# Altium footprint library WR-TBL_Spring Clamp_7.00mm.PcbLib: 32 footprints (part 2 of 2)
Each footprint in its own frame and in the unit in brackets; x right, y up, seen from the top. Pads: shape width x height; smd on the part's side, far side on the other; paste and mask are expansions set on the pad; w line width, h text height; cw(c..) or ccw(c..) is an arc to the next point about the centre after c.
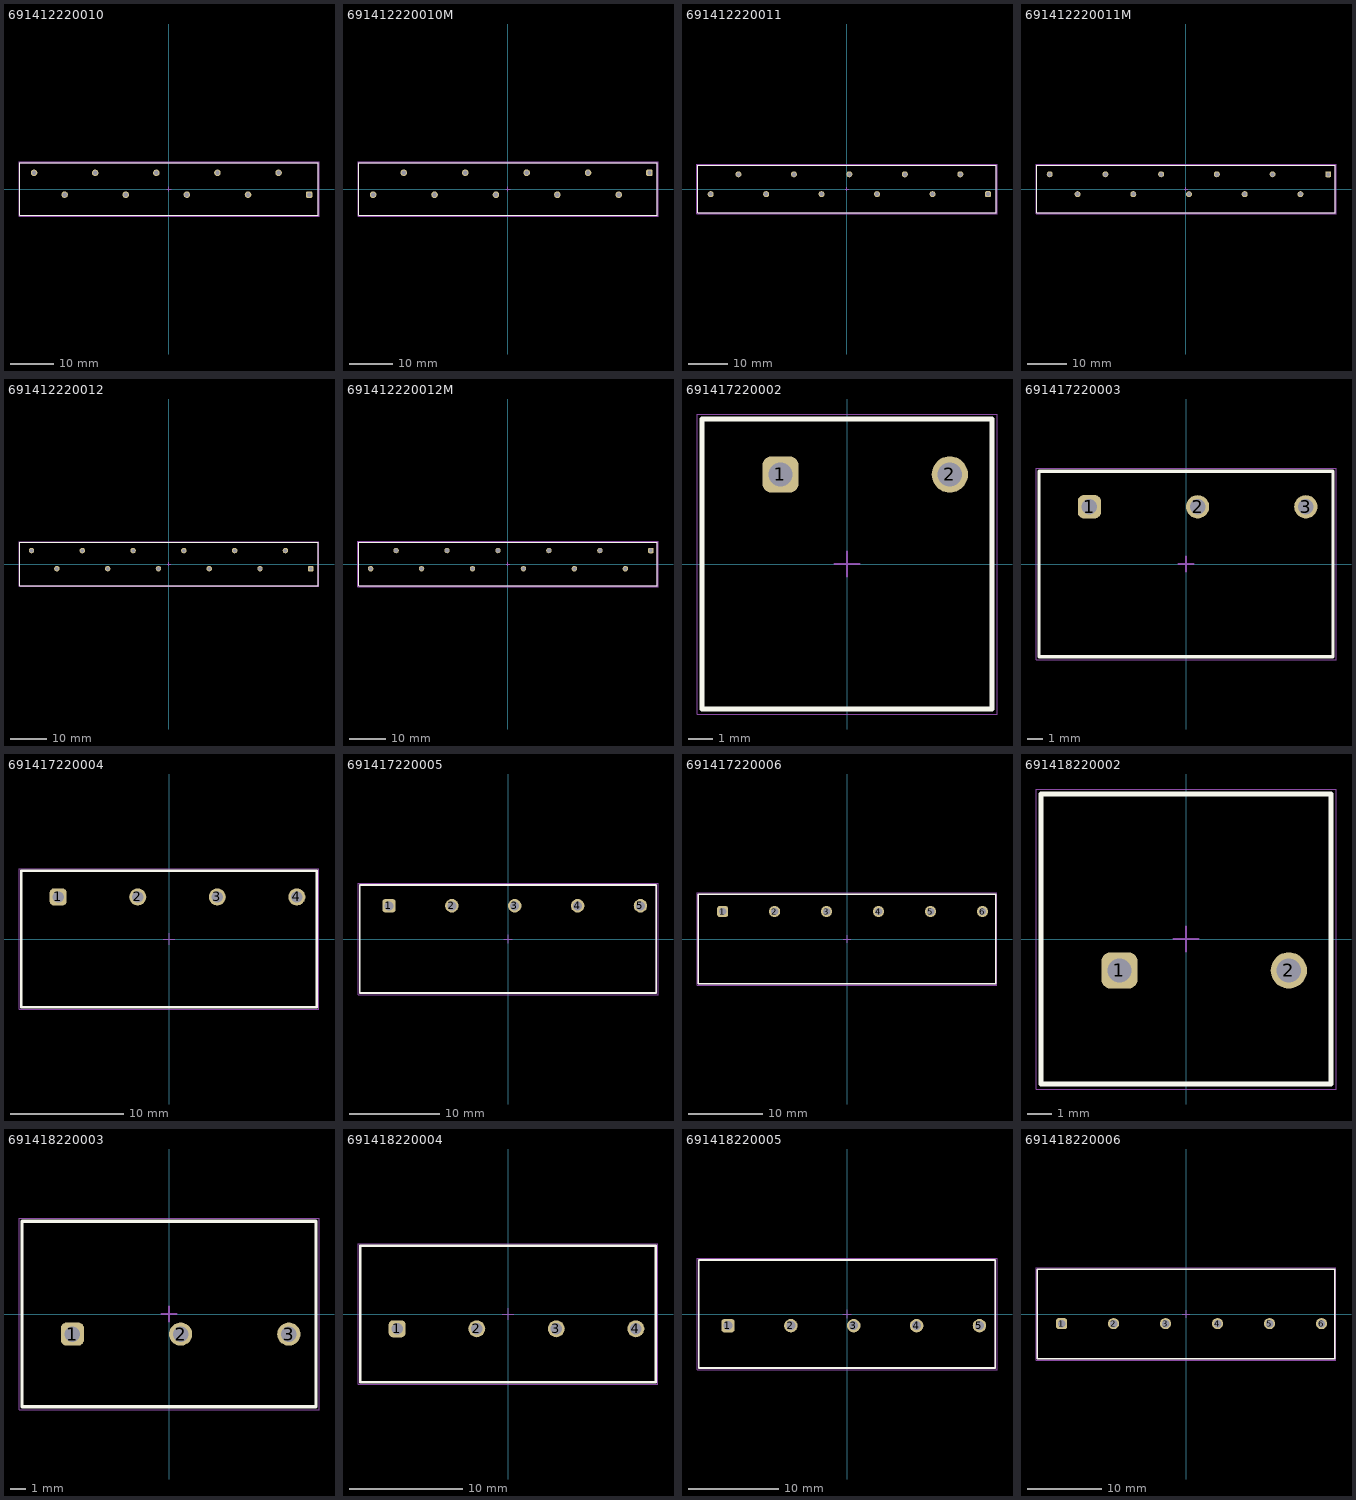
[diagram p1: the footprints below, top view; thin cyan lines are the x and y axes]

## 691412220010 [mm] "7.00 mm Screwless 45deg Entry, 10p"
height 13.2
pads (10):
  rrect50% 1.5x1.5 hole 1: 1(32.095,-1.3)
  round 1.5 hole 1: 2(25.095,3.7) 3(18.095,-1.3) 4(11.095,3.7) 5(4.095,-1.3) 6(-2.905,3.7) 7(-9.905,-1.3) 8(-16.905,3.7) 9(-23.905,-1.3) 10(-30.905,3.7)
Top Overlay:
  lines w0.2: -34.155,-6 -34.155,6 34.155,6 34.155,-6 -34.155,-6
Top Assembly:
  lines w0.1: -34.155,-6 34.155,-6 34.155,6 -34.155,6 -34.155,-6
Top Designator:
  text ".Designator" at -3.647,-0.357 h1
Top 3D Body:
  lines w0.1: -34.155,-6 -34.155,6 34.155,6 34.155,-6 -34.155,-6
Top Courtyard:
  lines w0.05: -34.355,-6.2 34.355,-6.2 34.355,6.2 -34.355,6.2 -34.355,-6.2
Top Component Center:
  lines w0.1: -0.5,0 0.5,0 ; 0,-0.5 0,0.5
3D body "691412220010.stp": height 13.28, standoff -3.52, extent -34.155,-6 34.155,6

## 691412220010M [mm] "7.00 mm Screwless 45deg Entry Mirror Version, 10p"
height 13.2
pads (10):
  rrect50% 1.5x1.5 hole 1: 1(32.25,3.7)
  round 1.5 hole 1: 2(25.25,-1.3) 3(18.25,3.7) 4(11.25,-1.3) 5(4.25,3.7) 6(-2.75,-1.3) 7(-9.75,3.7) 8(-16.75,-1.3) 9(-23.75,3.7) 10(-30.75,-1.3)
Top Overlay:
  lines w0.2: -34,-6 -34,6 34,6 34,-6 -34,-6
Top Assembly:
  lines w0.1: -34,-6 34,-6 34,6 -34,6 -34,-6
Top Designator:
  text ".Designator" at -3.647,-0.357 h1
Top 3D Body:
  lines w0.1: -34,-6 -34,6 34,6 34,-6 -34,-6
Top Courtyard:
  lines w0.05: -34.2,-6.2 -34.2,6.2 34.2,6.2 34.2,-6.2 -34.2,-6.2
Top Component Center:
  lines w0.1: -0.5,0 0.5,0 ; 0,-0.5 0,0.5
3D body "691412220010M.stp": height 13.28, standoff -3.52, extent -34,-6 34,6

## 691412220011 [mm] "7.00 mm Screwless 45deg Entry, 11p"
height 13.2
pads (11):
  rrect50% 1.5x1.5 hole 1: 1(35.595,-1.3)
  round 1.5 hole 1: 2(28.595,3.7) 3(21.595,-1.3) 4(14.595,3.7) 5(7.595,-1.3) 6(0.595,3.7) 7(-6.405,-1.3) 8(-13.405,3.7) 9(-20.405,-1.3) 10(-27.405,3.7) 11(-34.405,-1.3)
Top Overlay:
  lines w0.2: -37.655,-6 -37.655,6 37.655,6 37.655,-6 -37.655,-6
Top Assembly:
  lines w0.1: -37.655,-6 37.655,-6 37.655,6 -37.655,6 -37.655,-6
Top Designator:
  text ".Designator" at -3.647,-0.357 h1
Top 3D Body:
  lines w0.1: -37.655,-6 -37.655,6 37.655,6 37.655,-6 -37.655,-6
Top Courtyard:
  lines w0.05: -37.855,-6.2 37.855,-6.2 37.855,6.2 -37.855,6.2 -37.855,-6.2
Top Component Center:
  lines w0.1: -0.5,0 0.5,0 ; 0,-0.5 0,0.5
3D body "691412220011.stp": height 13.28, standoff -3.52, extent -37.655,-6 37.655,6

## 691412220011M [mm] "7.00 mm Screwless 45deg Entry Mirror Version, 11p"
height 13.2
pads (11):
  rrect50% 1.5x1.5 hole 1: 1(35.75,3.7)
  round 1.5 hole 1: 2(28.75,-1.3) 3(21.75,3.7) 4(14.75,-1.3) 5(7.75,3.7) 6(0.75,-1.3) 7(-6.25,3.7) 8(-13.25,-1.3) 9(-20.25,3.7) 10(-27.25,-1.3) 11(-34.25,3.7)
Top Overlay:
  lines w0.2: -37.5,-6 -37.5,6 37.5,6 37.5,-6 -37.5,-6
Top Assembly:
  lines w0.1: -37.5,-6 37.5,-6 37.5,6 -37.5,6 -37.5,-6
Top Designator:
  text ".Designator" at -3.647,-0.357 h1
Top 3D Body:
  lines w0.1: -37.5,-6 -37.5,6 37.5,6 37.5,-6 -37.5,-6
Top Courtyard:
  lines w0.05: -37.7,-6.2 -37.7,6.2 37.7,6.2 37.7,-6.2 -37.7,-6.2
Top Component Center:
  lines w0.1: -0.5,0 0.5,0 ; 0,-0.5 0,0.5
3D body "691412220011M.stp": height 13.28, standoff -3.52, extent -37.5,-6 37.5,6

## 691412220012 [mm] "7.00 mm Screwless 45deg Entry, 12p"
height 13.2
pads (12):
  rrect50% 1.5x1.5 hole 1: 1(39.095,-1.3)
  round 1.5 hole 1: 2(32.095,3.7) 3(25.095,-1.3) 4(18.095,3.7) 5(11.095,-1.3) 6(4.095,3.7) 7(-2.905,-1.3) 8(-9.905,3.7) 9(-16.905,-1.3) 10(-23.905,3.7) 11(-30.905,-1.3) 12(-37.905,3.7)
Top Overlay:
  lines w0.2: -41.155,-6 41.155,-6 41.155,6 -41.155,6 -41.155,-6
Top Assembly:
  lines w0.1: -41.155,-6 -41.155,6 41.155,6 41.155,-6 -41.155,-6
Top Designator:
  text ".Designator" at -3.647,-0.357 h1
Top 3D Body:
  lines w0.1: -41.155,-6 41.155,-6 41.155,6 -41.155,6 -41.155,-6
Top Courtyard:
  lines w0.05: -41.355,-6.2 -41.355,6.2 41.355,6.2 41.355,-6.2 -41.355,-6.2
Top Component Center:
  lines w0.1: -0.5,0 0.5,0 ; 0,-0.5 0,0.5
3D body "691412220012.stp": height 13.28, standoff -3.52, extent -41.155,-6 41.155,6

## 691412220012M [mm] "7.00 mm Screwless 45deg Entry Mirror Version, 12p"
height 13.2
pads (12):
  rrect50% 1.5x1.5 hole 1: 1(39.25,3.7)
  round 1.5 hole 1: 2(32.25,-1.3) 3(25.25,3.7) 4(18.25,-1.3) 5(11.25,3.7) 6(4.25,-1.3) 7(-2.75,3.7) 8(-9.75,-1.3) 9(-16.75,3.7) 10(-23.75,-1.3) 11(-30.75,3.7) 12(-37.75,-1.3)
Top Overlay:
  lines w0.2: -41,-6 -41,6 41,6 41,-6 -41,-6
Top Assembly:
  lines w0.1: -41,-6 41,-6 41,6 -41,6 -41,-6
Top Designator:
  text ".Designator" at -3.647,-0.357 h1
Top 3D Body:
  lines w0.1: -41,-6 -41,6 41,6 41,-6 -41,-6
Top Courtyard:
  lines w0.05: -41.2,-6.2 -41.2,6.2 41.2,6.2 41.2,-6.2 -41.2,-6.2
Top Component Center:
  lines w0.1: -0.5,0 0.5,0 ; 0,-0.5 0,0.5
3D body "691412220012M.stp": height 13.28, standoff -3.52, extent -41,-6 41,6

## 691417220002 [mm] "Serie 4172-7.00mm 45deg Cable Entry Screwless, 2 pins"
height 13.2
pads (2):
  rrect50% 1.5x1.5 hole 1: 1(-2.75,3.7)
  round 1.5 hole 1: 2(4.25,3.7)
Top Overlay:
  lines w0.2: -6,-6 6,-6 6,6 -6,6 -6,-6
Top Assembly:
  lines w0.1: -6,-6 -6,6 6,6 6,-6 -6,-6
Top Designator:
  text ".Designator" at -3.647,-0.357 h1
Top 3D Body:
  lines w0.1: -6,-6 6,-6 6,6 -6,6 -6,-6
Top Courtyard:
  lines w0.05: -6.2,-6.2 -6.2,6.2 6.2,6.2 6.2,-6.2 -6.2,-6.2
Top Component Center:
  lines w0.1: -0.5,0 0.5,0 ; 0,-0.5 0,0.5
3D body "691417220002.stp": height 13.23, standoff -3.57, extent -6,-6 6.001,6

## 691417220003 [mm] "Serie 4172-7.00mm 45deg Cable Entry Screwless, 3 pins"
height 13.2
pads (3):
  rrect50% 1.5x1.5 hole 1: 1(-6.25,3.7)
  round 1.5 hole 1: 2(0.75,3.7) 3(7.75,3.7)
Top Overlay:
  lines w0.2: -9.5,-6 9.5,-6 9.5,6 -9.5,6 -9.5,-6
Top Assembly:
  lines w0.1: -9.5,-6 -9.5,6 9.5,6 9.5,-6 -9.5,-6
Top Designator:
  text ".Designator" at -3.647,-0.357 h1
Top 3D Body:
  lines w0.1: -9.5,-6 9.5,-6 9.5,6 -9.5,6 -9.5,-6
Top Courtyard:
  lines w0.05: -9.7,-6.2 -9.7,6.2 9.7,6.2 9.7,-6.2 -9.7,-6.2
Top Component Center:
  lines w0.1: -0.5,0 0.5,0 ; 0,-0.5 0,0.5
3D body "691417220003.stp": height 13.23, standoff -3.57, extent -9.5,-6 9.501,6

## 691417220004 [mm] "Serie 4172-7.00mm 45deg Cable Entry Screwless, 4 pins"
height 13.2
pads (4):
  rrect50% 1.5x1.5 hole 1: 1(-9.75,3.7)
  round 1.5 hole 1: 2(-2.75,3.7) 3(4.25,3.7) 4(11.25,3.7)
Top Overlay:
  lines w0.2: -13,-6 13,-6 13,6 -13,6 -13,-6
Top Assembly:
  lines w0.1: -13,-6 -13,6 13,6 13,-6 -13,-6
Top Designator:
  text ".Designator" at -3.647,-0.357 h1
Top 3D Body:
  lines w0.1: -13,-6 13,-6 13,6 -13,6 -13,-6
Top Courtyard:
  lines w0.05: -13.2,-6.2 -13.2,6.2 13.2,6.2 13.2,-6.2 -13.2,-6.2
Top Component Center:
  lines w0.1: -0.5,0 0.5,0 ; 0,-0.5 0,0.5
3D body "691417220004.stp": height 13.23, standoff -3.57, extent -13,-6 13.001,6

## 691417220005 [mm] "Serie 4172-7.00mm 45deg Cable Entry Screwless, 5 pins"
height 13.2
pads (5):
  rrect50% 1.5x1.5 hole 1: 1(-13.25,3.7)
  round 1.5 hole 1: 2(-6.25,3.7) 3(0.75,3.7) 4(7.75,3.7) 5(14.75,3.7)
Top Overlay:
  lines w0.2: -16.5,-6 -16.5,6 16.5,6 16.5,-6 -16.5,-6
Top Assembly:
  lines w0.1: -16.5,-6 16.5,-6 16.5,6 -16.5,6 -16.5,-6
Top Designator:
  text ".Designator" at -3.647,-0.357 h1
Top 3D Body:
  lines w0.1: -16.5,-6 -16.5,6 16.5,6 16.5,-6 -16.5,-6
Top Courtyard:
  lines w0.05: -16.7,-6.2 16.7,-6.2 16.7,6.2 -16.7,6.2 -16.7,-6.2
Top Component Center:
  lines w0.1: -0.5,0 0.5,0 ; 0,-0.5 0,0.5
3D body "691417220005.stp": height 13.23, standoff -3.57, extent -16.5,-6 16.501,6

## 691417220006 [mm] "Serie 4172-7.00mm 45deg Cable Entry Screwless, 6 pins"
height 13.2
pads (6):
  rrect50% 1.5x1.5 hole 1: 1(-16.75,3.7)
  round 1.5 hole 1: 2(-9.75,3.7) 3(-2.75,3.7) 4(4.25,3.7) 5(11.25,3.7) 6(18.25,3.7)
Top Overlay:
  lines w0.2: -20,-6 -20,6 20,6 20,-6 -20,-6
Top Assembly:
  lines w0.1: -20,-6 20,-6 20,6 -20,6 -20,-6
Top Designator:
  text ".Designator" at -3.647,-0.357 h1
Top 3D Body:
  lines w0.1: -20,-6 -20,6 20,6 20,-6 -20,-6
Top Courtyard:
  lines w0.05: -20.2,-6.2 20.2,-6.2 20.2,6.2 -20.2,6.2 -20.2,-6.2
Top Component Center:
  lines w0.1: -0.5,0 0.5,0 ; 0,-0.5 0,0.5
3D body "691417220006.stp": height 13.23, standoff -3.57, extent -20,-6 20.001,6

## 691418220002 [mm] "Serie 4182-7.00mm 45deg Cable Entry Screwless, 2 pins"
height 13.2
pads (2):
  rrect50% 1.5x1.5 hole 1: 1(-2.75,-1.3)
  round 1.5 hole 1: 2(4.25,-1.3)
Top Overlay:
  lines w0.2: -6,-6 6,-6 6,6 -6,6 -6,-6
Top Assembly:
  lines w0.1: -6,-6 -6,6 6,6 6,-6 -6,-6
Top Designator:
  text ".Designator" at -3.647,-0.357 h1
Top 3D Body:
  lines w0.1: -6,-6 6,-6 6,6 -6,6 -6,-6
Top Courtyard:
  lines w0.05: -6.2,-6.2 6.2,-6.2 6.2,6.2 -6.2,6.2 -6.2,-6.2
Top Component Center:
  lines w0.1: -0.5,0 0.5,0 ; 0,-0.5 0,0.5
3D body "691418220002.stp": height 13.23, standoff -3.57, extent -6,-6 6,6

## 691418220003 [mm] "Serie 4182-7.00mm 45deg Cable Entry Screwless, 3 pins"
height 13.2
pads (3):
  rrect50% 1.5x1.5 hole 1: 1(-6.25,-1.3)
  round 1.5 hole 1: 2(0.75,-1.3) 3(7.75,-1.3)
Top Overlay:
  lines w0.2: -9.5,-6 9.5,-6 9.5,6 -9.5,6 -9.5,-6
Top Assembly:
  lines w0.1: -9.5,-6 -9.5,6 9.5,6 9.5,-6 -9.5,-6
Top Designator:
  text ".Designator" at -3.647,-0.357 h1
Top 3D Body:
  lines w0.1: -9.5,-6 9.5,-6 9.5,6 -9.5,6 -9.5,-6
Top Courtyard:
  lines w0.05: -9.7,-6.2 9.7,-6.2 9.7,6.2 -9.7,6.2 -9.7,-6.2
Top Component Center:
  lines w0.1: -0.5,0 0.5,0 ; 0,-0.5 0,0.5
3D body "691418220003.stp": height 13.23, standoff -3.57, extent -9.5,-6 9.5,6

## 691418220004 [mm] "Serie 4182-7.00mm 45deg Cable Entry Screwless, 4 pins"
height 13.2
pads (4):
  rrect50% 1.5x1.5 hole 1: 1(-9.75,-1.3)
  round 1.5 hole 1: 2(-2.75,-1.3) 3(4.25,-1.3) 4(11.25,-1.3)
Top Overlay:
  lines w0.2: -13,-6 -13,6 13,6 13,-6 -13,-6
Top Assembly:
  lines w0.1: -13,-6 13,-6 13,6 -13,6 -13,-6
Top Designator:
  text ".Designator" at -3.647,-0.357 h1
Top 3D Body:
  lines w0.1: -13,-6 -13,6 13,6 13,-6 -13,-6
Top Courtyard:
  lines w0.05: -13.2,-6.2 -13.2,6.2 13.2,6.2 13.2,-6.2 -13.2,-6.2
Top Component Center:
  lines w0.1: -0.5,0 0.5,0 ; 0,-0.5 0,0.5
3D body "691418220004.stp": height 13.23, standoff -3.57, extent -13,-6 13,6

## 691418220005 [mm] "Serie 4182-7.00mm 45deg Cable Entry Screwless, 5 pins"
height 13.2
pads (5):
  rrect50% 1.5x1.5 hole 1: 1(-13.25,-1.3)
  round 1.5 hole 1: 2(-6.25,-1.3) 3(0.75,-1.3) 4(7.75,-1.3) 5(14.75,-1.3)
Top Overlay:
  lines w0.2: -16.5,-6 16.5,-6 16.5,6 -16.5,6 -16.5,-6
Top Assembly:
  lines w0.1: -16.5,-6 -16.5,6 16.5,6 16.5,-6 -16.5,-6
Top Designator:
  text ".Designator" at -3.647,-0.357 h1
Top 3D Body:
  lines w0.1: -16.5,-6 16.5,-6 16.5,6 -16.5,6 -16.5,-6
Top Courtyard:
  lines w0.05: -16.7,-6.2 16.7,-6.2 16.7,6.2 -16.7,6.2 -16.7,-6.2
Top Component Center:
  lines w0.1: -0.5,0 0.5,0 ; 0,-0.5 0,0.5
3D body "691418220005.stp": height 13.23, standoff -3.57, extent -16.5,-6 16.5,6

## 691418220006 [mm] "Serie 4182-7.00mm 45deg Cable Entry Screwless, 6 pins"
height 13.2
pads (6):
  rrect50% 1.5x1.5 hole 1: 1(-16.75,-1.3)
  round 1.5 hole 1: 2(-9.75,-1.3) 3(-2.75,-1.3) 4(4.25,-1.3) 5(11.25,-1.3) 6(18.25,-1.3)
Top Overlay:
  lines w0.2: -20,-6 20,-6 20,6 -20,6 -20,-6
Top Assembly:
  lines w0.1: -20,-6 -20,6 20,6 20,-6 -20,-6
Top Designator:
  text ".Designator" at -3.647,-0.357 h1
Top 3D Body:
  lines w0.1: -20,-6 20,-6 20,6 -20,6 -20,-6
Top Courtyard:
  lines w0.05: -20.2,-6.2 20.2,-6.2 20.2,6.2 -20.2,6.2 -20.2,-6.2
Top Component Center:
  lines w0.1: -0.5,0 0.5,0 ; 0,-0.5 0,0.5
3D body "691418220006.stp": height 13.23, standoff -3.57, extent -20,-6 20,6